# Altium footprint library CP2201EB.PcbLib: 1 footprints
Each footprint in its own frame and in the unit in brackets; x right, y up, seen from the top. Pads: shape width x height; smd on the part's side, far side on the other; paste and mask are expansions set on the pad; w line width, h text height; cw(c..) or ccw(c..) is an arc to the next point about the centre after c.
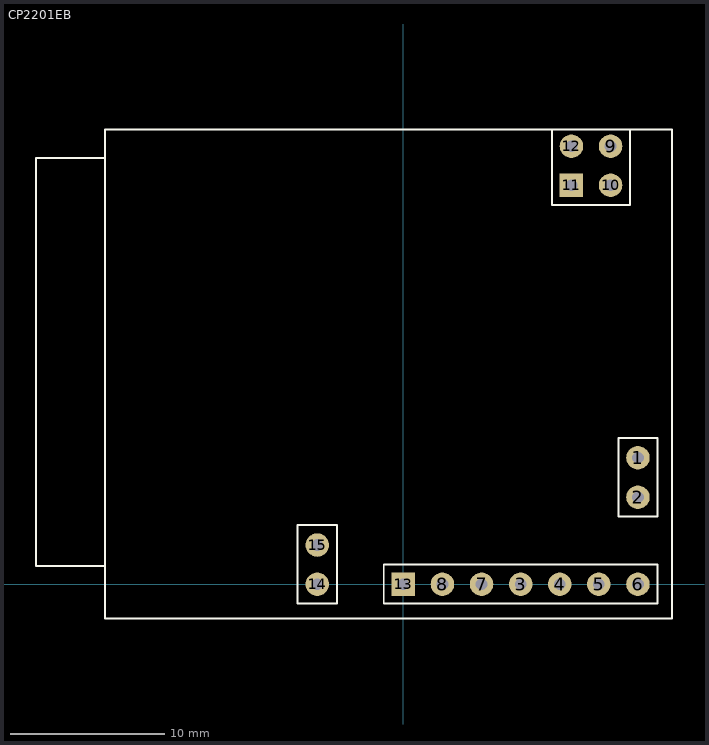
[diagram p0: the footprint, top view; thin cyan lines are the x and y axes]

## CP2201EB [mil]
pads (15):
  round 60 hole 30: 1(600,323.5) 2(600,222.5) 3(300,0) 4(400,0) 5(500,0) 6(600,0) 7(200,0) 8(100,0) 9(530,1120) 10(530,1020) 12(430,1120) 14(-220,0) 15(-220,100)
  rect 60x60 hole 30: 11(430,1020) 13(0,0)
Top Overlay:
  lines w5: -762.51,46.19 -939.67,46.19 -939.67,1089.5 -762.51,1089.5 ; 380,1162.33 380,970 580,970 580,1162.33 ; -762.51,-87.67 687.49,-87.67 687.49,1162.33 -762.51,1162.33 -762.51,-87.67 ; -270,-50 -270,151 -170,151 -170,-50 -270,-50 ; -50,-50 650,-50 650,50 -50,50 -50,-50 ; 550,172.5 650,172.5 650,373.5 550,373.5 550,172.5
3D body: height 1043.17, standoff 90.4, extent -922.76,-90.76 687.49,1163.76
3D body: height 334.65, standoff -125.98, extent 375.08,971.15 584.92,1168
3D body: height 334.65, standoff -125.98, extent 550.79,167.5 649.21,377.34
3D body: height 334.65, standoff -125.98, extent -55,-49.21 654.84,49.21
3D body: height 334.65, standoff -125.98, extent -269.21,-55 -170.79,154.84
3D body: height -106.87, standoff -539.15, extent -270,-50 -170,150